# EAGLE library part ZXTS1000E6 (library zetex)
PNP TRANSISTOR with SHOTTKY
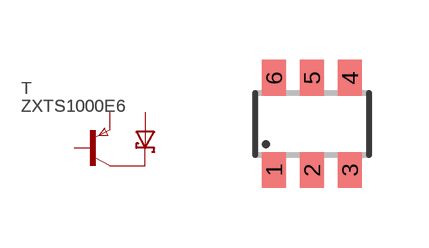
[diagram p25: symbol with the pads of SOT23-6; footprint SOT23-6]

Designator prefix T

## ZXTS1000E6  [SOT23-6]
1  E  pas
2  B  pas
3  A  pas
4  K  pas
5  C  pas
6  C1  pas

## Footprint SOT23-6 (pad centres in mm)
Small Outline Transistor 6 lead
smd 0.6 x 0.9: 1 -0.95,-1.15; 2 0,-1.15; 3 0.95,-1.15; 4 0.95,1.15; 5 0,1.15; 6 -0.95,1.15